# Altium footprint library TSW-103-05-G-S.PcbLib: 1 footprints
Each footprint in its own frame and in the unit in brackets; x right, y up, seen from the top. Pads: shape width x height; smd on the part's side, far side on the other; paste and mask are expansions set on the pad; w line width, h text height; cw(c..) or ccw(c..) is an arc to the next point about the centre after c.
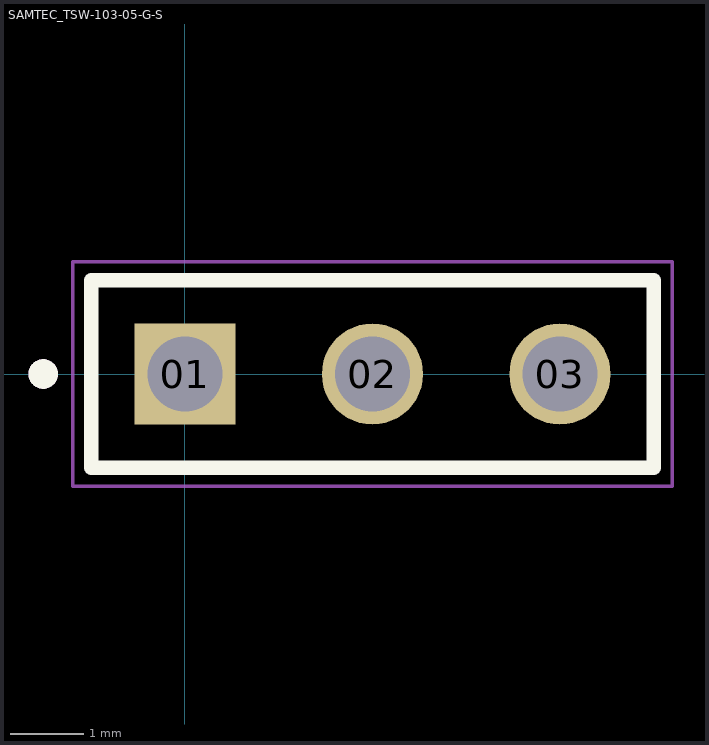
[diagram p0: the footprint, top view; thin cyan lines are the x and y axes]

## SAMTEC_TSW-103-05-G-S [mm]
pads (3):
  rect 1.37x1.37 hole 1.02: 01(0,0)
  round 1.37 hole 1.02: 02(2.54,0) 03(5.08,0)
Top Overlay:
  circle w0.2: c-1.92,0 r0.1
  lines w0.2: -1.27,-1.27 6.35,-1.27 6.35,1.27 -1.27,1.27 -1.27,-1.27
Mechanical 13:
  circle w0.2: c-1.92,0 r0.1
  lines w0.1: -1.27,-1.27 6.35,-1.27 6.35,1.27 -1.27,1.27 -1.27,-1.27
Mechanical 15:
  lines w0.05: -1.52,-1.52 6.6,-1.52 6.6,1.52 -1.52,1.52 -1.52,-1.52